# Altium schematic symbol library JLCPCB_Transistor_NPN.SchLib: 3 symbols
Pins are listed as number, name and electrical type; pins without a type are passive.

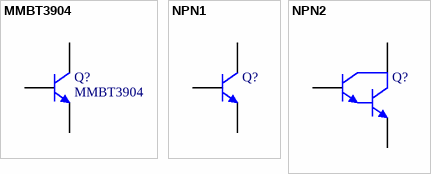
[diagram p0: symbols MMBT3904 to NPN2]

## MMBT3904
designator Q?, comment MFR_Name: MMBT3904  (hidden comment: basic)
Transistors NPN 200mA 40V SOT-23(SOT-23-3) RoHS; V(CBO): 60V; P(C): 200mW; R(JA): 625C/W; T(j): 150C; f(T): 300MHz; LCSC_Part#: C20526; Package: SOT-23-3; ComponentLink1Description: Datasheet; ComponentLink1URL: https://datasheet.lcsc.com/szlcsc/Changjiang-Electronics-Tech-CJ-MMBT3904_C20526.pdf; V(CEO): 40V; I(C): 200mA
simulation model QNPN (NPN)
signal-integrity model NPN
footprint SOT-23 (SOT23, 3-Leads, Body 2,95x2,48mm, Pitch 0,95mm, IPC Medium Density)
pins: 1 C, 2 B, 3 E

## NPN1
designator Q?, comment basic  (value not drawn)
NPN Bipolar Transistor; ComponentLink1Description: Datasheet; f(T): *
footprint SOT-23B_N (SOT23, 3-Leads, Body 2.9x1.3mm, Pitch 0.95mm, Lead Span 2.4mm, IPC Medium Density)
footprint SOT-23B_L (SOT23, 3-Leads, Body 2.9x1.3mm, Pitch 0.95mm, Lead Span 2.4mm, IPC High Density)
footprint SOT-23B_M (SOT23, 3-Leads, Body 2.9x1.3mm, Pitch 0.95mm, Lead Span 2.4mm, IPC Low Density)
simulation model QNPN (NPN)
signal-integrity model NPN
pins: 1 C, 2 B, 3 E

## NPN2
designator Q?
NPN Darlington Bipolar Transistor; Published: 8-Jun-2000; LatestRevisionDate: 17-Jul-2002; LatestRevisionNote: Re-released for DXP Platform.; DatasheetVersion: 1989; PackageVersion: 1989; PackageReference: TO-92; Publisher: Altium Limited; PackageDescription: TO, Flat Index; 3 In-Line, Axial Leads; Body Dia. 4.6mm; Leads 0.41 x 0.39 mm (max); Code_JEDEC: TO-92
footprint TO-92 (TO, Flat Index; 3 In-Line, Axial Leads; Body Dia. 4.6mm; Leads 0.41 x 0.39 mm (max))
simulation model NPN1 (Spice Subcircuit)
signal-integrity model NPN
pins: 1 C, 2 B, 3 E